# Altium footprint library 电源管理.PcbLib: 16 footprints
Each footprint in its own frame and in the unit in brackets; x right, y up, seen from the top. Pads: shape width x height; smd on the part's side, far side on the other; paste and mask are expansions set on the pad; w line width, h text height; cw(c..) or ccw(c..) is an arc to the next point about the centre after c.
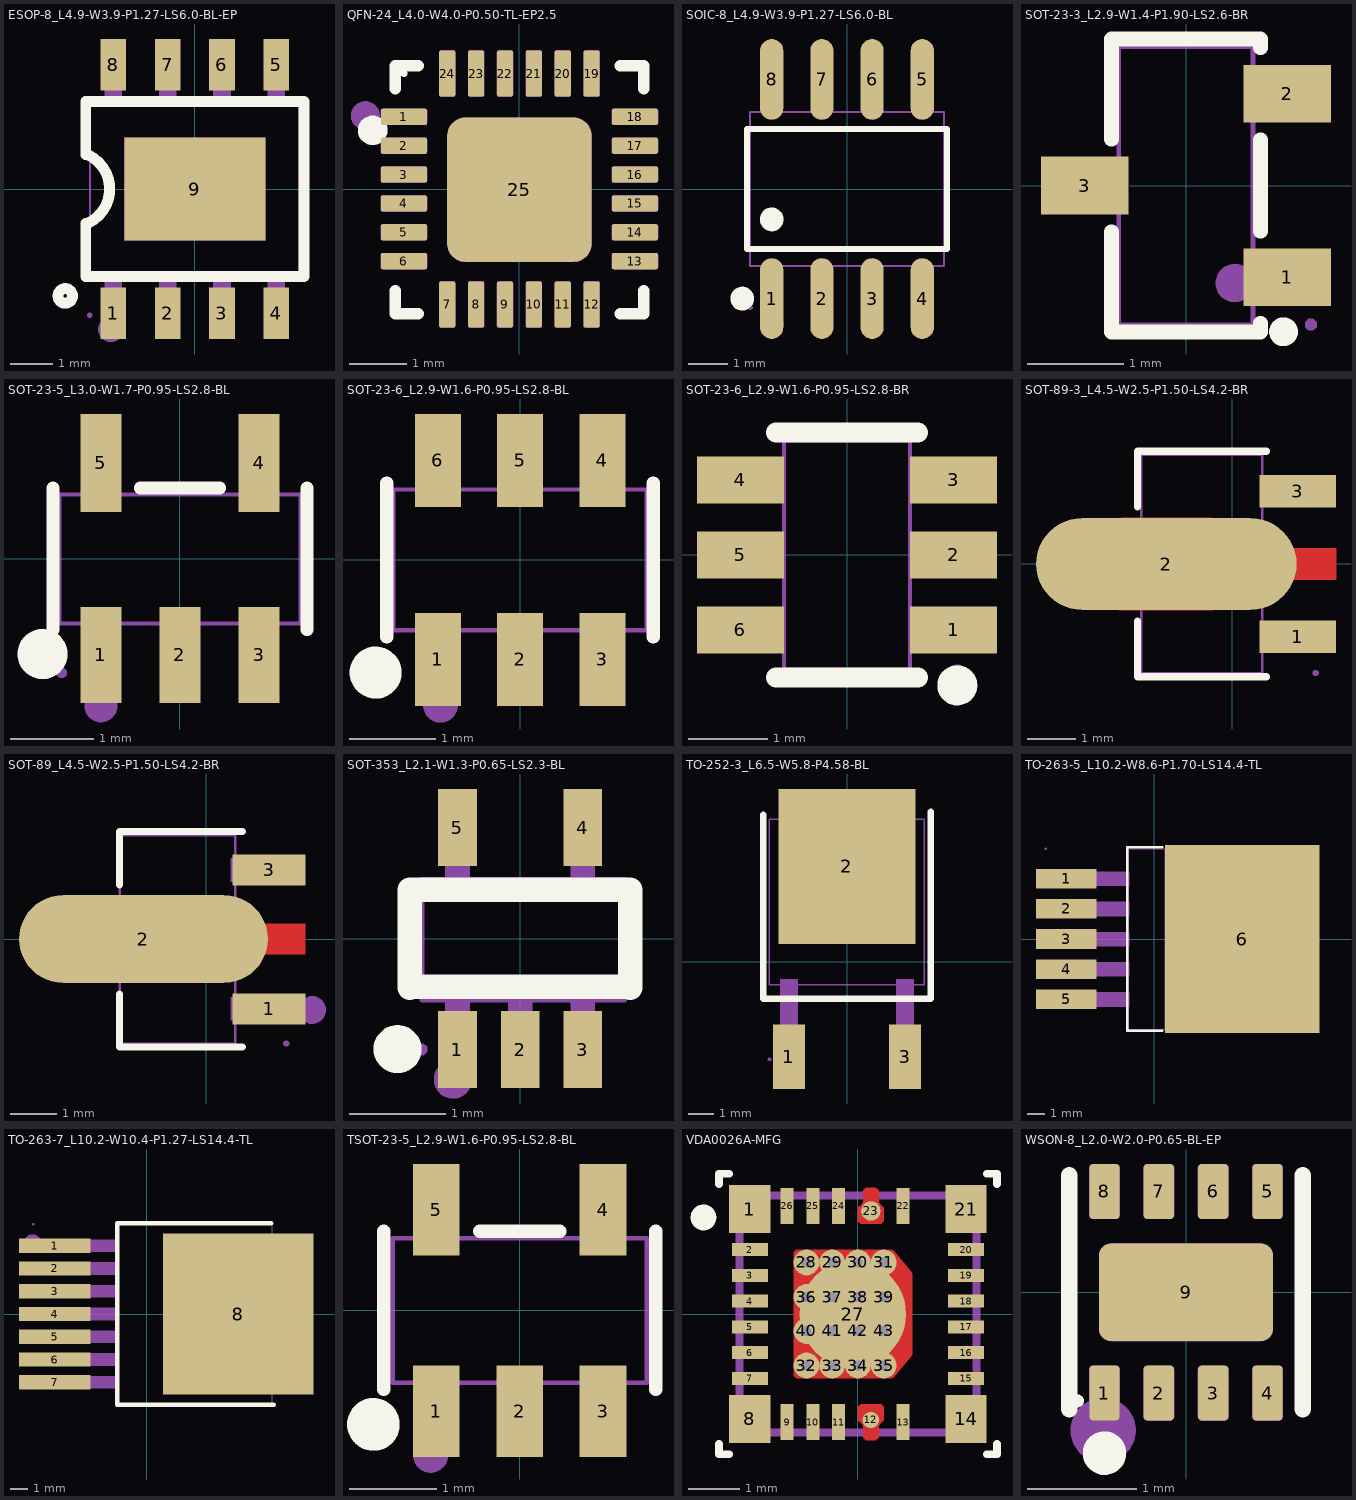
[diagram p0: the footprints below, top view; thin cyan lines are the x and y axes]

## ESOP-8_L4.9-W3.9-P1.27-LS6.0-BL-EP [mm]
pads (9):
  rect 0.6x1.2 smd: 1(-1.905,-2.908) 2(-0.635,-2.908) 3(0.635,-2.908) 4(1.905,-2.908) 5(1.905,2.908) 6(0.635,2.908) 7(-0.635,2.908) 8(-1.905,2.908)
  rect 3.3x2.4 smd: 9(0,0)
Top Overlay:
  circle w0.254: c-3.03,-2.5 r0.17
  lines w0.254: -2.55,-0.8 -2.55,-2.05 2.55,-2.05 2.55,2.05 -2.55,2.05 -2.55,0.8 ; -2.5,-0.8 ccw(c-2.875,0) -2.5,0.8
Mechanical 6:
  circle w0.3: c-1.96,-3.28 r0.15
Mechanical 15:
  region: 1.65,-1.2 -1.65,-1.2 -1.65,1.2 1.65,1.2
  region: 1.705,-2.95 1.705,-2.3 2.105,-2.3 2.105,-2.95
  region: 1.705,-2.31 1.705,-1.94 2.105,-1.94 2.105,-2.31
  region: 0.435,-2.95 0.435,-2.3 0.835,-2.3 0.835,-2.95
  region: 0.435,-2.31 0.435,-1.94 0.835,-1.94 0.835,-2.31
  region: -0.835,-2.95 -0.835,-2.3 -0.435,-2.3 -0.435,-2.95
  region: -0.835,-2.31 -0.835,-1.94 -0.435,-1.94 -0.435,-2.31
  region: -2.105,-2.95 -2.105,-2.3 -1.705,-2.3 -1.705,-2.95
  region: -2.105,-2.31 -2.105,-1.94 -1.705,-1.94 -1.705,-2.31
  region: 1.705,2.3 1.705,2.95 2.105,2.95 2.105,2.3
  region: 1.705,1.94 1.705,2.31 2.105,2.31 2.105,1.94
  region: 0.435,2.3 0.435,2.95 0.835,2.95 0.835,2.3
  region: 0.435,1.94 0.435,2.31 0.835,2.31 0.835,1.94
  region: -0.835,2.3 -0.835,2.95 -0.435,2.95 -0.435,2.3
  region: -0.835,1.94 -0.835,2.31 -0.435,2.31 -0.435,1.94
  region: -2.105,2.3 -2.105,2.95 -1.705,2.95 -1.705,2.3
  region: -2.105,1.94 -2.105,2.31 -1.705,2.31 -1.705,1.94
  region: -2.394,-2.95 -2.394,-2.925 -2.429,-2.89 -2.479,-2.89 -2.514,-2.925 -2.514,-2.95 -2.514,-2.975 -2.479,-3.01 -2.429,-3.01 -2.394,-2.975 -2.394,-2.95
  lines w0.051: -2.45,-1.95 -2.45,1.95 2.45,1.95 2.45,-1.95 -2.45,-1.95

## QFN-24_L4.0-W4.0-P0.50-TL-EP2.5 [mm] "QFN-24(4x4); QFN-24-EP(4x4); -; VQFN-24(4x4); TQFN-24(4x4); QFN-24_EP(4x4); QFN-24; TQFN-24AL(4x4); WQFN-24(4x4); TQFN-24-EP(4x4); VQFN-24-EP(4x4); MLF-24(4x4); SMT-24(4x4); QFN-24-EP; VQFN-24; QFN-24_L4.0-W4.0-P0.50-TL-EP2.5; QFN-24_L4.0-W4.0-P0.50; QFN24_L4.0-W4.0-P0.50-EP2.5; EQFN-24_L4.0-W4.0-P0.50-BL-EP; QFN-24_L4.0-W4.0-P0.50-EP2.4; QFN-24_L4.0-W4.0-P0.50-EP2.5; VFQFN-24-EP; UFQFN-24-EP; TQFN-24_L4.0-W4.0-P0.50-BL-EP; QFN24_4X4; QFN24; QNF24; QFN-24_4.0X4.0; QFN-24_L4.0-W4.0-P0.50-BL-EP2.8; VFQFPN-24; VQFN024V4040; WQFN-24L 4x4; QFN24-4*4; PQFN-24(4x4); QFN-24_4x4x05P; QFN28-4*4; QFN24-5X5; PQFN-24; QFN24-4*4-0.5; QFN24&#65288;4*4mm&#65289;; QFN-24_4X4; QFN24_4x4; TQFN-24_4X4; MLCP-24(4x4); QFN-24_4X4X05P; WQFN-24_4X4; QFN-24_4X4mm; QFN-24_4x4"
height -909.212
pads (25):
  rrect25% 0.8x0.28 smd mask+0.05: 1(-2,1.25) 2(-2,0.75) 3(-2,0.25) 4(-2,-0.25) 5(-2,-0.75) 6(-2,-1.25) 13(2,-1.25) 14(2,-0.75) 15(2,-0.25) 16(2,0.25) 17(2,0.75) 18(2,1.25)
  rrect25% 0.28x0.8 smd mask+0.05: 7(-1.25,-2) 8(-0.75,-2) 9(-0.25,-2) 10(0.25,-2) 11(0.75,-2) 12(1.25,-2) 19(1.25,2) 20(0.75,2) 21(0.25,2) 22(-0.25,2) 23(-0.75,2) 24(-1.25,2)
  rrect25% 2.5x2.5 smd mask+0.05: 25(0,-0.012)
Top Overlay:
  region: -1.94,2 -1.941,2.012 -1.945,2.023 -1.95,2.033 -1.958,2.042 -1.967,2.05 -1.977,2.055 -1.988,2.059 -2,2.06 -2.012,2.059 -2.023,2.055 -2.033,2.05 -2.042,2.042 -2.05,2.033 -2.055,2.023 -2.059,2.012 -2.06,2 -2.059,1.988 -2.055,1.977 -2.05,1.967 -2.042,1.958 -2.033,1.95 -2.023,1.945 -2.012,1.941 -2,1.94 -1.988,1.941 -1.977,1.945 -1.967,1.95 -1.958,1.958 -1.95,1.967 -1.945,1.977 -1.941,1.988
  region: -2.54,1.27 -2.584,1.266 -2.627,1.255 -2.667,1.237 -2.703,1.212 -2.735,1.181 -2.761,1.145 -2.779,1.105 -2.791,1.062 -2.795,1.018 -2.792,0.974 -2.781,0.931 -2.762,0.891 -2.737,0.855 -2.706,0.823 -2.67,0.797 -2.631,0.778 -2.588,0.766 -2.544,0.762 -2.5,0.766 -2.457,0.777 -2.417,0.795 -2.38,0.82 -2.349,0.851 -2.323,0.887 -2.304,0.926 -2.292,0.969 -2.287,1.013 -2.291,1.057 -2.302,1.1 -2.32,1.14 -2.345,1.177 -2.375,1.208 -2.411,1.234 -2.451,1.254 -2.494,1.266 -2.543,1.27
  lines w0.2: -2.15,-1.763 -2.15,-2.163 -1.75,-2.163 ; -2.15,1.737 -2.15,2.138 -1.75,2.138 ; 1.75,-2.163 2.15,-2.163 2.15,-1.763 ; 1.75,2.138 2.15,2.138 2.15,1.737
Mechanical 2:
  circle w0.25: c-2.667,1.27 r0.125
Mechanical 9:
  drawing of 25 lines, arcs and shapes, not listed
3D body "QFN-24_L4.0-W4.0-P0.50-TL-EP2.1.step": height 1, standoff 0, extent -2,-2 2,2

## SOIC-8_L4.9-W3.9-P1.27-LS6.0-BL [mm]
pads (8):
  oval 0.588x2.045 smd: 1(-1.905,-2.772) 2(-0.635,-2.772) 3(0.635,-2.772) 4(1.905,-2.772) 5(1.905,2.772) 6(0.635,2.772) 7(-0.635,2.772) 8(-1.905,2.772)
Top Overlay:
  circle w0.3: c-2.652,-2.772 r0.15
  circle w0.3: c-1.905,-0.769 r0.15
  lines w0.152: -2.526,-1.521 2.526,-1.521 2.526,1.521 -2.526,1.521 -2.526,-1.521
Mechanical 6:
  circle w0.3: c-1.905,-3.4 r0.15
Mechanical 15:
  region: 1.695,2.175 1.695,1.94 2.115,1.94 2.115,2.175
  region: 1.695,3 1.695,2.165 2.115,2.165 2.115,3
  region: 0.425,2.175 0.425,1.94 0.845,1.94 0.845,2.175
  region: 0.425,3 0.425,2.165 0.845,2.165 0.845,3
  region: -0.845,2.175 -0.845,1.94 -0.425,1.94 -0.425,2.175
  region: -0.845,3 -0.845,2.165 -0.425,2.165 -0.425,3
  region: -2.115,2.175 -2.115,1.94 -1.695,1.94 -1.695,2.175
  region: -2.115,3 -2.115,2.165 -1.695,2.165 -1.695,3
  region: 1.695,-2.175 1.695,-1.94 2.115,-1.94 2.115,-2.175
  region: 1.695,-3 1.695,-2.165 2.115,-2.165 2.115,-3
  region: 0.425,-2.175 0.425,-1.94 0.845,-1.94 0.845,-2.175
  region: 0.425,-3 0.425,-2.165 0.845,-2.165 0.845,-3
  region: -0.845,-2.175 -0.845,-1.94 -0.425,-1.94 -0.425,-2.175
  region: -0.845,-3 -0.845,-2.165 -0.425,-2.165 -0.425,-3
  region: -2.115,-2.175 -2.115,-1.94 -1.695,-1.94 -1.695,-2.175
  region: -2.115,-3 -2.115,-2.165 -1.695,-2.165 -1.695,-3
  region: -2.39,-3 -2.39,-2.975 -2.425,-2.94 -2.475,-2.94 -2.51,-2.975 -2.51,-3 -2.51,-3.025 -2.475,-3.06 -2.425,-3.06 -2.39,-3.025 -2.39,-3
  lines w0.051: -2.45,-1.95 2.45,-1.95 2.45,1.95 -2.45,1.95 -2.45,-1.95

## SOT-23-3_L2.9-W1.4-P1.90-LS2.6-BR [mm]
pads (3):
  rect 0.91x0.6 smd: 1(1.055,-0.955) 2(1.055,0.955) 3(-1.055,0)
Top Overlay:
  circle w0.15: c1.016,-1.524 r0.075
  lines w0.152: -0.776,-0.48 -0.776,-1.526 0.776,-1.526 0.776,-1.435 ; -0.776,0.48 -0.776,1.526 0.776,1.526 0.776,1.435 ; 0.776,-0.475 0.776,0.475
Mechanical 6:
  circle w0.2: c0.508,-1.016 r0.1
Mechanical 15:
  region: 1.36,-1.45 1.36,-1.425 1.325,-1.39 1.275,-1.39 1.24,-1.425 1.24,-1.45 1.24,-1.475 1.275,-1.51 1.325,-1.51 1.36,-1.475 1.36,-1.45
  region: 1.3,-0.73 0.95,-0.73 0.95,-1.18 1.3,-1.18
  region: 0.96,-0.73 0.69,-0.73 0.69,-1.18 0.96,-1.18
  region: 1.3,1.18 0.95,1.18 0.95,0.73 1.3,0.73
  region: 0.96,1.18 0.69,1.18 0.69,0.73 0.96,0.73
  region: -1.3,0.225 -0.95,0.225 -0.95,-0.225 -1.3,-0.225
  region: -0.96,0.225 -0.69,0.225 -0.69,-0.225 -0.96,-0.225
  lines w0.051: -0.7,-1.45 -0.7,1.45 0.7,1.45 0.7,-1.45 -0.7,-1.45

## SOT-23-5_L3.0-W1.7-P0.95-LS2.8-BL [mm]
pads (5):
  rect 0.49x1.157 smd paste+0 mask+0.051: 1(-0.95,-1.154) 2(0,-1.154) 3(0.95,-1.154)
  rect 0.49x1.175 smd paste+0 mask+0.051: 4(0.95,1.154) 5(-0.95,1.154)
Top Overlay:
  circle w0.3: c-1.651,-1.143 r0.15
  lines w0.152: -1.526,-0.851 -1.526,0.851 ; -0.476,0.851 0.476,0.851 ; 1.526,-0.851 1.526,0.851
Mechanical 6:
  circle w0.2: c-0.95,-1.763 r0.1
Mechanical 15:
  region: -1.36,-1.37 -1.36,-1.345 -1.395,-1.31 -1.445,-1.31 -1.48,-1.345 -1.48,-1.37 -1.48,-1.395 -1.445,-1.43 -1.395,-1.43 -1.36,-1.395
  region: -1.125,0.74 -1.125,1.01 -0.775,1.01 -0.775,0.74
  region: -1.125,1 -1.125,1.4 -0.775,1.4 -0.775,1
  region: 0.775,0.74 0.775,1.01 1.125,1.01 1.125,0.74
  region: 0.775,1 0.775,1.4 1.125,1.4 1.125,1
  region: 0.775,-1.01 0.775,-0.74 1.125,-0.74 1.125,-1.01
  region: 0.775,-1.4 0.775,-1 1.125,-1 1.125,-1.4
  region: -0.175,-1.01 -0.175,-0.74 0.175,-0.74 0.175,-1.01
  region: -0.175,-1.4 -0.175,-1 0.175,-1 0.175,-1.4
  region: -1.125,-1.01 -1.125,-0.74 -0.775,-0.74 -0.775,-1.01
  region: -1.125,-1.4 -1.125,-1 -0.775,-1 -0.775,-1.4
  lines w0.051: -1.45,-0.775 1.45,-0.775 1.45,0.775 -1.45,0.775 -1.45,-0.775

## SOT-23-6_L2.9-W1.6-P0.95-LS2.8-BL [mm]
pads (6):
  rect 0.532x1.072 smd: 1(-0.95,-1.149) 2(0,-1.149) 3(0.95,-1.149) 4(0.95,1.149) 5(0,1.149) 6(-0.95,1.149)
Top Overlay:
  circle w0.3: c-1.668,-1.301 r0.15
  lines w0.152: -1.539,-0.889 -1.539,0.889 ; 1.539,-0.889 1.539,0.889
Mechanical 6:
  circle w0.2: c-0.92,-1.68 r0.1
Mechanical 15:
  region: -1.403,-1.4 -1.403,-1.375 -1.438,-1.34 -1.488,-1.34 -1.523,-1.375 -1.523,-1.4 -1.523,-1.425 -1.488,-1.46 -1.438,-1.46 -1.403,-1.425 -1.403,-1.4
  region: -1.165,-0.925 -0.735,-0.925 -0.735,-1.4 -1.165,-1.4
  region: -1.165,-0.803 -0.735,-0.803 -0.735,-0.935 -1.165,-0.935
  region: -0.215,-0.925 0.215,-0.925 0.215,-1.4 -0.215,-1.4
  region: -0.215,-0.803 0.215,-0.803 0.215,-0.935 -0.215,-0.935
  region: 0.735,-0.925 1.165,-0.925 1.165,-1.4 0.735,-1.4
  region: 0.735,-0.803 1.165,-0.803 1.165,-0.935 0.735,-0.935
  region: 0.735,0.925 1.165,0.925 1.165,1.4 0.735,1.4
  region: 0.735,0.935 1.165,0.935 1.165,0.803 0.735,0.803
  region: -0.215,0.925 0.215,0.925 0.215,1.4 -0.215,1.4
  region: -0.215,0.935 0.215,0.935 0.215,0.803 -0.215,0.803
  region: -1.165,0.925 -0.735,0.925 -0.735,1.4 -1.165,1.4
  region: -1.165,0.935 -0.735,0.935 -0.735,0.803 -1.165,0.803
  lines w0.051: -1.463,-0.813 1.463,-0.813 1.463,0.813 -1.463,0.813 -1.463,-0.813

## SOT-23-6_L2.9-W1.6-P0.95-LS2.8-BR [mm]
pads (6):
  rect 1.1x0.6 smd paste+0 mask+0.051: 1(1.35,-0.95) 2(1.35,0) 3(1.35,0.95) 4(-1.35,0.95) 5(-1.35,0) 6(-1.35,-0.95)
Top Overlay:
  circle w0.254: c1.397,-1.651 r0.127
  lines w0.254: -0.9,-1.55 0.9,-1.55 ; -0.9,1.55 0.9,1.55
Mechanical 6:
  circle w0.2: c1.4,-0.95 r0.1
Mechanical 15:
  region: 0.935,1.165 0.935,0.735 0.79,0.735 0.79,1.165
  region: 0.935,0.215 0.935,-0.215 0.79,-0.215 0.79,0.215
  region: 0.935,-0.735 0.935,-1.165 0.79,-1.165 0.79,-0.735
  region: -0.935,-1.165 -0.935,-0.735 -0.79,-0.735 -0.79,-1.165
  region: -0.935,-0.215 -0.935,0.215 -0.79,0.215 -0.79,-0.215
  region: 0.925,-1.165 0.925,-0.735 1.4,-0.735 1.4,-1.165
  region: 0.925,-0.215 0.925,0.215 1.4,0.215 1.4,-0.215
  region: 0.925,0.735 0.925,1.165 1.4,1.165 1.4,0.735
  region: -0.935,0.735 -0.935,1.165 -0.79,1.165 -0.79,0.735
  region: -0.925,0.735 -0.925,1.165 -1.4,1.165 -1.4,0.735
  region: -0.925,-0.215 -0.925,0.215 -1.4,0.215 -1.4,-0.215
  region: -0.925,-1.165 -0.925,-0.735 -1.4,-0.735 -1.4,-1.165
  region: 1.46,-1.45 1.46,-1.425 1.425,-1.39 1.375,-1.39 1.34,-1.425 1.34,-1.45 1.34,-1.475 1.375,-1.51 1.425,-1.51 1.46,-1.475 1.46,-1.45
  lines w0.051: -0.8,-1.45 0.8,-1.45 0.8,1.45 -0.8,1.45 -0.8,-1.45

## SOT-89-3_L4.5-W2.5-P1.50-LS4.2-BR [mm]
pads (3):
  rect 1.575x0.672 smd: 1(1.356,-1.5) 3(1.356,1.5)
  oval 5.377x1.9 smd: 2(-1.356,0)
Top Layer:
  region: -2.283,0.95 -0.429,0.95 -0.384,0.949 -0.34,0.946 -0.296,0.94 -0.252,0.933 -0.208,0.924 -0.165,0.912 -0.123,0.899 -0.081,0.884 -0.04,0.866 0,0.847 0.04,0.826 0.078,0.803 0.115,0.779 0.151,0.752 0.185,0.724 0.219,0.695 0.251,0.664 0.281,0.631 0.31,0.597 0.337,0.562 0.362,0.525 0.386,0.488 0.408,0.449 0.428,0.409 0.447,0.33 2.144,0.33 2.144,-0.33 0.447,-0.33 0.428,-0.409 0.408,-0.449 0.386,-0.488 0.362,-0.526 0.337,-0.562 0.31,-0.597 0.281,-0.631 0.251,-0.664 0.219,-0.695 0.185,-0.725 0.151,-0.753 0.115,-0.779 0.078,-0.804 0.04,-0.827 0,-0.848 -0.04,-0.867 -0.081,-0.884 -0.123,-0.899 -0.165,-0.913 -0.208,-0.924 -0.252,-0.934 -0.296,-0.941 -0.34,-0.946 -0.384,-0.949 -0.429,-0.95 -2.283,-0.95 -2.328,-0.949 -2.372,-0.946 -2.416,-0.941 -2.46,-0.934 -2.504,-0.924 -2.547,-0.913 -2.589,-0.899 -2.631,-0.884 -2.672,-0.867 -2.713,-0.848 -2.752,-0.827 -2.79,-0.804 -2.827,-0.779 -2.863,-0.753 -2.898,-0.725 -2.931,-0.695 -2.963,-0.664 -2.993,-0.631 -3.022,-0.597 -3.049,-0.562 -3.075,-0.526 -3.098,-0.488 -3.12,-0.449 -3.141,-0.409 -3.159,-0.369 -3.175,-0.327 -3.189,-0.285 -3.202,-0.242 -3.212,-0.199 -3.22,-0.155 -3.227,-0.111 -3.231,-0.067 -3.233,-0.022 -3.233,0.022 -3.231,0.067 -3.227,0.111 -3.22,0.155 -3.212,0.199 -3.202,0.242 -3.189,0.285 -3.175,0.327 -3.159,0.369 -3.141,0.409 -3.12,0.449 -3.098,0.488 -3.075,0.525 -3.049,0.562 -3.022,0.597 -2.993,0.631 -2.963,0.664 -2.931,0.695 -2.898,0.724 -2.863,0.752 -2.827,0.779 -2.79,0.803 -2.752,0.826 -2.713,0.847 -2.672,0.866 -2.631,0.884 -2.589,0.899 -2.547,0.912 -2.504,0.924 -2.46,0.933 -2.416,0.94 -2.372,0.946 -2.328,0.949
Top Overlay:
  lines w0.152: -1.95,-1.177 -1.95,-2.326 0.702,-2.326 ; -1.95,1.177 -1.95,2.326 0.702,2.326
Mechanical 6:
  circle w0.3: c1.715,-1.5 r0.15
Mechanical 15:
  region: 1.784,-2.25 1.784,-2.225 1.749,-2.19 1.699,-2.19 1.664,-2.225 1.664,-2.25 1.664,-2.275 1.699,-2.31 1.749,-2.31 1.784,-2.275 1.784,-2.25
  region: 0.439,-0.26 1.724,-0.26 1.724,0.26 0.439,0.26 -0.136,0.863 -2,0.863 -2.471,0.288 -2.471,-0.287 -2,-0.862 -0.136,-0.862
  region: 0.624,-1.25 1.724,-1.25 1.724,-1.75 0.624,-1.75
  region: 0.624,1.75 1.724,1.75 1.724,1.25 0.624,1.25
  lines w0.051: -1.874,-2.25 -1.874,2.25 0.626,2.25 0.626,-2.25 -1.874,-2.25

## SOT-89_L4.5-W2.5-P1.50-LS4.2-BR [mm]
pads (3):
  rect 1.575x0.672 smd: 1(1.356,-1.5) 3(1.356,1.5)
  oval 5.377x1.9 smd: 2(-1.356,0.009)
Top Layer:
  region: -2.283,0.959 -0.429,0.959 -0.385,0.958 -0.34,0.955 -0.296,0.949 -0.252,0.942 -0.208,0.933 -0.165,0.921 -0.123,0.908 -0.081,0.893 -0.04,0.875 0,0.856 0.04,0.835 0.078,0.812 0.115,0.788 0.151,0.761 0.185,0.733 0.219,0.704 0.251,0.673 0.281,0.64 0.31,0.606 0.337,0.571 0.362,0.534 0.386,0.497 0.408,0.458 0.428,0.418 0.447,0.339 2.144,0.339 2.144,-0.321 0.447,-0.321 0.428,-0.401 0.408,-0.44 0.386,-0.479 0.362,-0.517 0.337,-0.553 0.31,-0.588 0.281,-0.622 0.251,-0.655 0.219,-0.686 0.185,-0.716 0.151,-0.744 0.115,-0.77 0.078,-0.795 0.04,-0.818 0,-0.839 -0.04,-0.858 -0.081,-0.875 -0.123,-0.89 -0.165,-0.904 -0.208,-0.915 -0.252,-0.925 -0.296,-0.932 -0.34,-0.937 -0.385,-0.94 -0.429,-0.941 -2.283,-0.941 -2.328,-0.94 -2.372,-0.937 -2.416,-0.932 -2.46,-0.925 -2.504,-0.915 -2.547,-0.904 -2.589,-0.89 -2.631,-0.875 -2.672,-0.858 -2.713,-0.839 -2.752,-0.818 -2.79,-0.795 -2.827,-0.77 -2.863,-0.744 -2.898,-0.716 -2.931,-0.686 -2.963,-0.655 -2.993,-0.622 -3.022,-0.588 -3.049,-0.553 -3.075,-0.517 -3.098,-0.479 -3.12,-0.44 -3.141,-0.401 -3.159,-0.36 -3.175,-0.318 -3.189,-0.276 -3.202,-0.233 -3.212,-0.19 -3.22,-0.146 -3.227,-0.102 -3.231,-0.058 -3.233,-0.013 -3.233,0.031 -3.231,0.076 -3.227,0.12 -3.22,0.164 -3.212,0.208 -3.202,0.251 -3.189,0.294 -3.175,0.336 -3.159,0.377 -3.141,0.418 -3.12,0.458 -3.098,0.497 -3.075,0.534 -3.049,0.571 -3.022,0.606 -2.993,0.64 -2.963,0.673 -2.931,0.704 -2.898,0.733 -2.863,0.761 -2.827,0.788 -2.79,0.812 -2.752,0.835 -2.713,0.856 -2.672,0.875 -2.631,0.893 -2.589,0.908 -2.547,0.921 -2.504,0.933 -2.46,0.942 -2.416,0.949 -2.372,0.955 -2.328,0.958
Top Overlay:
  lines w0.152: -1.871,-1.177 -1.871,-2.326 0.781,-2.326 ; -1.871,1.177 -1.871,2.326 0.781,2.326
Mechanical 6:
  circle w0.3: c2.286,-1.524 r0.15
Mechanical 15:
  region: 0.529,1.75 1.729,1.75 1.729,1.25 0.529,1.25
  region: 0.529,-1.25 1.729,-1.25 1.729,-1.75 0.529,-1.75
  region: 0.439,-0.26 1.724,-0.26 1.724,0.26 0.439,0.26 -0.136,0.863 -1.796,0.863 -2.371,0.288 -2.371,-0.287 -1.796,-0.862 -0.136,-0.862
  region: 1.789,-2.25 1.789,-2.225 1.754,-2.19 1.704,-2.19 1.669,-2.225 1.669,-2.25 1.669,-2.275 1.704,-2.31 1.754,-2.31 1.789,-2.275 1.789,-2.25
  lines w0.051: -1.871,-2.25 0.629,-2.25 0.629,2.25 -1.871,2.25 -1.871,-2.25

## SOT-353_L2.1-W1.3-P0.65-LS2.3-BL [mm]
pads (5):
  rect 0.4x0.8 smd: 1(-0.65,-1.15) 2(0,-1.15) 3(0.65,-1.15) 4(0.65,1.15) 5(-0.65,1.15)
Top Overlay:
  lines w0.249: -1.273,-1.27 cw(c-1.271,-1.146) -1.27,-1.27
  lines w0.254: -1.143,-0.508 -1.143,0.508 1.143,0.508 1.143,-0.508 ; -1.1,-0.5 1.1,-0.5
Mechanical 6:
  circle w0.2: c-0.695,-1.459 r0.1
Mechanical 15:
  region: -0.964,-1.149 -0.964,-1.124 -0.999,-1.089 -1.049,-1.089 -1.084,-1.124 -1.084,-1.149 -1.084,-1.173 -1.049,-1.209 -0.999,-1.209 -0.964,-1.173 -0.964,-1.149
  region: -0.775,0.6 -0.775,0.785 -0.525,0.785 -0.525,0.6
  region: -0.775,0.78 -0.775,1.14 -0.525,1.14 -0.525,0.78
  region: 0.525,0.6 0.525,0.785 0.775,0.785 0.775,0.6
  region: 0.525,0.78 0.525,1.14 0.775,1.14 0.775,0.78
  region: -0.775,-0.8 -0.775,-0.615 -0.525,-0.615 -0.525,-0.8
  region: -0.775,-1.15 -0.775,-0.79 -0.525,-0.79 -0.525,-1.15
  region: -0.125,-0.8 -0.125,-0.615 0.125,-0.615 0.125,-0.8
  region: -0.125,-1.15 -0.125,-0.79 0.125,-0.79 0.125,-1.15
  region: 0.525,-0.8 0.525,-0.615 0.775,-0.615 0.775,-0.8
  region: 0.525,-1.15 0.525,-0.79 0.775,-0.79 0.775,-1.15
  lines w0.051: -1.016,-0.635 -1.016,0.615 1.084,0.615 1.084,-0.635 -1.016,-0.635

## TO-252-3_L6.5-W5.8-P4.58-BL [mm]
pads (3):
  rect 1.27x2.54 smd: 1(-2.288,-3.747) 3(2.288,-3.745)
  rect 5.4x6.1 smd: 2(-0.002,3.747)
Top Overlay:
  lines w0.254: -3.304,5.649 -3.304,5.776 -3.305,-1.463 3.299,-1.463 3.299,5.776 3.3,5.903
Mechanical 6:
  circle w0.254: c-2.286,-3.556 r0.127
Mechanical 15:
  region: -2.252,1.247 -2.252,6.247 2.248,6.247 2.248,1.247
  region: -2.638,-3.853 -2.638,-3.353 -1.938,-3.353 -1.938,-3.853
  region: -2.638,-3.363 -2.638,-0.693 -1.938,-0.693 -1.938,-3.363
  region: 1.938,-3.853 1.938,-3.353 2.638,-3.353 2.638,-3.853
  region: 1.938,-3.363 1.938,-0.693 2.638,-0.693 2.638,-3.363
  region: -2.992,-3.853 -2.992,-3.828 -3.027,-3.793 -3.077,-3.793 -3.112,-3.828 -3.112,-3.853 -3.112,-3.878 -3.077,-3.913 -3.027,-3.913 -2.992,-3.878 -2.992,-3.853
  lines w0.051: -3.052,-0.903 3.048,-0.903 3.048,5.597 -3.052,5.597 -3.052,-0.903

## TO-263-5_L10.2-W8.6-P1.70-LS14.4-TL [mm]
pads (6):
  rect 3.4x1.1 smd: 1(-4.953,3.4) 2(-4.953,1.7) 3(-4.953,0) 4(-4.953,-1.7) 5(-4.953,-3.4)
  rect 8.705x10.587 smd: 6(4.953,0)
Top Overlay:
  lines w0.152: 0.448,-5.166 -1.516,-5.166 -1.516,5.166 0.448,5.166
Mechanical 6:
  circle w0.42: c-6.096,3.429 r0.21
Mechanical 15:
  region: -6.036,5.09 -6.036,5.115 -6.071,5.15 -6.121,5.15 -6.156,5.115 -6.156,5.09 -6.156,5.065 -6.121,5.03 -6.071,5.03 -6.036,5.065 -6.036,5.09
  region: -6.096,2.995 -6.096,3.805 -4.056,3.805 -4.056,2.995
  region: -6.096,1.295 -6.096,2.105 -4.056,2.105 -4.056,1.295
  region: -6.096,-0.405 -6.096,0.405 -4.056,0.405 -4.056,-0.405
  region: -6.096,-2.105 -6.096,-1.295 -4.056,-1.295 -4.056,-2.105
  region: -6.096,-3.81 -6.096,-3 -4.056,-3 -4.056,-3.81
  region: 0.6,-5.09 0.6,5.09 7.552,5.09 8.57,4.072 8.57,-4.072 7.552,-5.09
  region: -4.096,-3.81 -4.096,-3.01 -1.396,-3.01 -1.396,-3.81
  region: -4.096,-2.11 -4.096,-1.31 -1.396,-1.31 -1.396,-2.11
  region: -4.096,-0.41 -4.096,0.39 -1.396,0.39 -1.396,-0.41
  region: -4.096,1.29 -4.096,2.09 -1.396,2.09 -1.396,1.29
  region: -4.096,2.99 -4.096,3.79 -1.396,3.79 -1.396,2.99
  lines w0.051: -1.44,-5.09 -1.44,5.09 7.3,5.09 7.3,-5.09 -1.44,-5.09

## TO-263-7_L10.2-W10.4-P1.27-LS14.4-TL [mm]
pads (8):
  rect 4x0.8 smd: 1(-5.123,3.81) 2(-5.123,2.54) 3(-5.123,1.27) 4(-5.123,0) 5(-5.123,-1.27) 6(-5.123,-2.54) 7(-5.123,-3.81)
  rect 8.4x9 smd: 8(5.123,0)
Top Overlay:
  lines w0.254: 6.958,5.076 -1.649,5.076 -1.649,-5.076 7.085,-5.076
Mechanical 6:
  circle w0.5: c-6.377,3.937 r0.25
Mechanical 15:
  region: -6.017,-4.152 -6.017,-3.468 -4.037,-3.468 -4.037,-4.152
  region: -4.047,-4.152 -4.047,-3.468 -1.567,-3.468 -1.567,-4.152
  region: -6.017,-2.882 -6.017,-2.198 -4.037,-2.198 -4.037,-2.882
  region: -4.047,-2.882 -4.047,-2.198 -1.567,-2.198 -1.567,-2.882
  region: -6.017,-1.612 -6.017,-0.928 -4.037,-0.928 -4.037,-1.612
  region: -4.047,-1.612 -4.047,-0.928 -1.567,-0.928 -1.567,-1.612
  region: -6.017,-0.342 -6.017,0.342 -4.037,0.342 -4.037,-0.342
  region: -4.047,-0.342 -4.047,0.342 -1.567,0.342 -1.567,-0.342
  region: -6.017,0.928 -6.017,1.612 -4.037,1.612 -4.037,0.928
  region: -4.047,0.928 -4.047,1.612 -1.567,1.612 -1.567,0.928
  region: -6.017,2.198 -6.017,2.882 -4.037,2.882 -4.037,2.198
  region: -4.047,2.198 -4.047,2.882 -1.567,2.882 -1.567,2.198
  region: -6.017,3.468 -6.017,4.152 -4.037,4.152 -4.037,3.468
  region: -4.047,3.468 -4.047,4.152 -1.567,4.152 -1.567,3.468
  region: 1.84,-4.25 1.84,4.25 7.447,4.25 8.298,3.4 8.297,-3.4 7.447,-4.25
  region: -6.262,5 -6.262,5.025 -6.298,5.06 -6.347,5.06 -6.382,5.025 -6.382,5 -6.382,4.975 -6.347,4.94 -6.298,4.94 -6.262,4.975 -6.262,5
  lines w0.051: -1.573,-5.1 7.018,-5.1 7.018,5.1 -1.573,5.1 -1.573,-5.1

## TSOT-23-5_L2.9-W1.6-P0.95-LS2.8-BL [mm]
pads (5):
  rect 0.532x1.045 smd: 1(-0.95,-1.148) 2(0,-1.148) 3(0.95,-1.148) 4(0.95,1.148) 5(-0.95,1.148)
Top Overlay:
  circle w0.3: c-1.668,-1.3 r0.15
  lines w0.152: -1.551,-0.901 -1.551,0.901 ; -0.455,0.901 0.455,0.901 ; 1.551,-0.901 1.551,0.901
Mechanical 6:
  circle w0.2: c-1.016,-1.651 r0.1
Mechanical 15:
  region: -1.163,0.96 -0.737,0.96 -0.737,0.815 -1.163,0.815
  region: -1.163,0.95 -0.737,0.95 -0.737,1.4 -1.163,1.4
  region: 0.737,0.96 1.163,0.96 1.163,0.815 0.737,0.815
  region: 0.737,0.95 1.163,0.95 1.163,1.4 0.737,1.4
  region: 0.737,-0.815 1.163,-0.815 1.163,-0.96 0.737,-0.96
  region: 0.737,-0.95 1.163,-0.95 1.163,-1.4 0.737,-1.4
  region: -0.212,-0.815 0.212,-0.815 0.212,-0.96 -0.212,-0.96
  region: -0.212,-0.95 0.212,-0.95 0.212,-1.4 -0.212,-1.4
  region: -1.163,-0.815 -0.737,-0.815 -0.737,-0.96 -1.163,-0.96
  region: -1.163,-0.95 -0.737,-0.95 -0.737,-1.4 -1.163,-1.4
  region: -1.39,-1.4 -1.391,-1.376 -1.426,-1.341 -1.475,-1.341 -1.51,-1.376 -1.51,-1.4 -1.51,-1.425 -1.475,-1.459 -1.426,-1.459 -1.391,-1.425 -1.39,-1.4
  lines w0.051: -1.45,-0.825 -1.45,0.825 1.45,0.825 1.45,-0.825 -1.45,-0.825

## VDA0026A-MFG [mm]
pads (43):
  rect 0.8x0.925 smd paste-0.45 mask-0.445: 1(-2.1,2.037) 8(-2.1,-2.037) 14(2.1,-2.037) 21(2.1,2.037)
  rect 0.7x0.25 smd paste+0 mask+0: 2(-2.1,1.25) 3(-2.1,0.75) 4(-2.1,0.25) 5(-2.1,-0.25) 6(-2.1,-0.75) 7(-2.1,-1.25) 15(2.1,-1.25) 16(2.1,-0.75) 17(2.1,-0.25) 18(2.1,0.25) 19(2.1,0.75) 20(2.1,1.25)
  rect 0.25x0.7 smd paste+0 mask+0: 9(-1.375,-2.1) 10(-0.875,-2.1) 11(-0.375,-2.1) 13(0.875,-2.1) 22(0.875,2.1) 24(-0.375,2.1) 25(-0.875,2.1) 26(-1.375,2.1)
  round 0.32 smd paste+0 mask+0: 12(0.25,-2.057)
  round 0.377 smd paste+0 mask+0: 23(0.25,2)
  round 2.07 smd paste-1.022 mask+0: 27(-0.1,0)
  round 0.5 hole 0.203 paste-0.25 mask-0.241: 28(-1,1) 29(-0.5,1) 30(0,1) 31(0.5,1) 32(-1,-1) 33(-0.5,-1) 34(0,-1) 35(0.5,-1) 36(-1,0.33) 37(-0.5,0.33) 38(0,0.33) 39(0.5,0.33) 40(-1,-0.33) 41(-0.5,-0.33) 42(0,-0.33) 43(0.5,-0.33)
Top Layer:
  region: -1.25,-1.2 -1.25,1.2 -1.2,1.25 0.657,1.25 0.695,1.232 1.038,0.822 1.05,0.79 1.05,-0.79 1.038,-0.822 0.695,-1.232 0.657,-1.25 -1.2,-1.25
  region: 0.45,1.75 0.05,1.75 0,1.8 0,2.065 0.05,2.115 0.1,2.165 0.1,2.4 0.15,2.45 0.35,2.45 0.4,2.4 0.4,2.165 0.45,2.115 0.5,2.065 0.5,1.8
  region: 0.05,-1.75 0.45,-1.75 0.5,-1.8 0.5,-2.065 0.45,-2.115 0.4,-2.165 0.4,-2.4 0.35,-2.45 0.15,-2.45 0.1,-2.4 0.1,-2.165 0.05,-2.115 0,-2.065 0,-1.8
Top Overlay:
  circle w0.25: c-3,1.875 r0.125
  lines w0.15: -2.7,-2.525 -2.7,-2.725 -2.5,-2.725 ; -2.7,2.525 -2.7,2.725 -2.5,2.725 ; 2.5,-2.725 2.7,-2.725 2.7,-2.525 ; 2.5,2.725 2.7,2.725 2.7,2.525
Top Paste:
  region: 0.975,-0.104 0.15,-0.104 0.1,-0.154 0.1,-1.154 0.15,-1.204 0.637,-1.204 0.667,-1.194 1.015,-0.846 1.025,-0.816 1.025,-0.154
  region: 0.975,0.104 0.15,0.104 0.1,0.154 0.1,1.154 0.15,1.204 0.637,1.204 0.667,1.194 1.015,0.846 1.025,0.816 1.025,0.154
  region: -0.15,-0.1 -0.1,-0.15 -0.1,-1.15 -0.15,-1.2 -1.15,-1.2 -1.2,-1.15 -1.2,-0.15 -1.15,-0.1
  region: -0.1,1.15 -0.1,0.15 -0.15,0.1 -1.15,0.1 -1.2,0.15 -1.2,1.15 -1.15,1.2 -0.15,1.2
  region: 1.75,-2.4 1.8,-2.45 1.95,-2.45 2,-2.4 2,-2.175 2.05,-2.125 2.075,-2.125 2.125,-2.075 2.125,-2.05 2.175,-2 2.4,-2 2.45,-1.95 2.45,-1.8 2.4,-1.75 2.175,-1.75 2.125,-1.7 2.125,-1.675 2.075,-1.625 1.8,-1.625 1.75,-1.675
  region: -1.75,-2.4 -1.8,-2.45 -1.95,-2.45 -2,-2.4 -2,-2.175 -2.05,-2.125 -2.075,-2.125 -2.125,-2.075 -2.125,-2.05 -2.175,-2 -2.4,-2 -2.45,-1.95 -2.45,-1.8 -2.4,-1.75 -2.175,-1.75 -2.125,-1.7 -2.125,-1.675 -2.075,-1.625 -1.8,-1.625 -1.75,-1.675
  region: 1.75,2.4 1.8,2.45 1.95,2.45 2,2.4 2,2.175 2.05,2.125 2.075,2.125 2.125,2.075 2.125,2.05 2.175,2 2.4,2 2.45,1.95 2.45,1.8 2.4,1.75 2.175,1.75 2.125,1.7 2.125,1.675 2.075,1.625 1.8,1.625 1.75,1.675
  region: -1.75,2.4 -1.8,2.45 -1.95,2.45 -2,2.4 -2,2.175 -2.05,2.125 -2.075,2.125 -2.125,2.075 -2.125,2.05 -2.175,2 -2.4,2 -2.45,1.95 -2.45,1.8 -2.4,1.75 -2.175,1.75 -2.125,1.7 -2.125,1.675 -2.075,1.625 -1.8,1.625 -1.75,1.675
  region: 0.45,1.75 0.05,1.75 0,1.8 0,2.065 0.05,2.115 0.1,2.165 0.1,2.4 0.15,2.45 0.35,2.45 0.4,2.4 0.4,2.165 0.45,2.115 0.5,2.065 0.5,1.8
  region: 0.05,-1.75 0.45,-1.75 0.5,-1.8 0.5,-2.065 0.45,-2.115 0.4,-2.165 0.4,-2.4 0.35,-2.45 0.15,-2.45 0.1,-2.4 0.1,-2.165 0.05,-2.115 0,-2.065 0,-1.8
Top Solder:
  region: 1.75,-2.4 1.8,-2.45 1.95,-2.45 2,-2.4 2,-2.175 2.05,-2.125 2.075,-2.125 2.125,-2.075 2.125,-2.05 2.175,-2 2.4,-2 2.45,-1.95 2.45,-1.8 2.4,-1.75 2.175,-1.75 2.125,-1.7 2.125,-1.675 2.075,-1.625 1.8,-1.625 1.75,-1.675
  region: -1.75,-2.4 -1.8,-2.45 -1.95,-2.45 -2,-2.4 -2,-2.175 -2.05,-2.125 -2.075,-2.125 -2.125,-2.075 -2.125,-2.05 -2.175,-2 -2.4,-2 -2.45,-1.95 -2.45,-1.8 -2.4,-1.75 -2.175,-1.75 -2.125,-1.7 -2.125,-1.675 -2.075,-1.625 -1.8,-1.625 -1.75,-1.675
  region: 1.75,2.4 1.8,2.45 1.95,2.45 2,2.4 2,2.175 2.05,2.125 2.075,2.125 2.125,2.075 2.125,2.05 2.175,2 2.4,2 2.45,1.95 2.45,1.8 2.4,1.75 2.175,1.75 2.125,1.7 2.125,1.675 2.075,1.625 1.8,1.625 1.75,1.675
  region: -1.75,2.4 -1.8,2.45 -1.95,2.45 -2,2.4 -2,2.175 -2.05,2.125 -2.075,2.125 -2.125,2.075 -2.125,2.05 -2.175,2 -2.4,2 -2.45,1.95 -2.45,1.8 -2.4,1.75 -2.175,1.75 -2.125,1.7 -2.125,1.675 -2.075,1.625 -1.8,1.625 -1.75,1.675
  region: -1.25,-1.2 -1.25,1.2 -1.2,1.25 0.657,1.25 0.695,1.232 1.038,0.822 1.05,0.79 1.05,-0.79 1.038,-0.822 0.695,-1.232 0.657,-1.25 -1.2,-1.25
  region: 0.45,1.75 0.05,1.75 0,1.8 0,2.065 0.05,2.115 0.1,2.165 0.1,2.4 0.15,2.45 0.35,2.45 0.4,2.4 0.4,2.165 0.45,2.115 0.5,2.065 0.5,1.8
  region: 0.05,-1.75 0.45,-1.75 0.5,-1.8 0.5,-2.065 0.45,-2.115 0.4,-2.165 0.4,-2.4 0.35,-2.45 0.15,-2.45 0.1,-2.4 0.1,-2.165 0.05,-2.115 0,-2.065 0,-1.8
Mechanical 13:
  lines w0.15: -2.3,-2.3 -2.3,2.3 2.3,2.3 2.3,-2.3 -2.3,-2.3

## WSON-8_L2.0-W2.0-P0.65-BL-EP [mm] "DFN-8-EP(2x2); DFN-8(2x2); WSON-8-EP; WSON-8(3x3); WSON-8"
height -2909.208
pads (9):
  rrect25% 0.28x0.505 smd mask+0.05: 1(-0.75,-0.928) 2(-0.25,-0.928) 3(0.25,-0.928) 4(0.75,-0.928) 5(0.75,0.928) 6(0.25,0.928) 7(-0.25,0.928) 8(-0.75,0.928)
  rrect25% 1.6x0.9 smd mask+0.05: 9(0,0)
Top Overlay:
  circle w0.2: c-0.75,-1.48 r0.1
  region: -0.94,-1 -0.941,-0.988 -0.945,-0.977 -0.95,-0.967 -0.958,-0.958 -0.967,-0.95 -0.977,-0.945 -0.988,-0.941 -1,-0.94 -1.012,-0.941 -1.023,-0.945 -1.033,-0.95 -1.042,-0.958 -1.05,-0.967 -1.055,-0.977 -1.059,-0.988 -1.06,-1 -1.059,-1.012 -1.055,-1.023 -1.05,-1.033 -1.042,-1.042 -1.033,-1.05 -1.023,-1.055 -1.012,-1.059 -1,-1.06 -0.988,-1.059 -0.977,-1.055 -0.967,-1.05 -0.958,-1.042 -0.95,-1.033 -0.945,-1.023 -0.941,-1.012
  lines w0.152: -1.076,-1.076 -1.076,1.076 ; 1.076,-1.076 1.076,1.076
Mechanical 2:
  circle w0.3: c-0.762,-1.27 r0.15
Mechanical 9:
  drawing of 9 lines, arcs and shapes, not listed
3D body "WSON-8_L2.0-W2.0-H0.8-P0.50.step": height 0.8, standoff 0, extent -1,-1 1,1